# Altium schematic symbol library 蜂鸣器.SchLib: 1 symbol
Pins are listed as number, name and electrical type; pins without a type are passive.

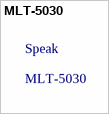
[diagram p0: symbol MLT-5030]

## MLT-5030
designator Speak